# Altium footprint library iAi_TemplateProject_4L.PcbLib: 3 footprints
Each footprint in its own frame and in the unit in brackets; x right, y up, seen from the top. Pads: shape width x height; smd on the part's side, far side on the other; paste and mask are expansions set on the pad; w line width, h text height; cw(c..) or ccw(c..) is an arc to the next point about the centre after c.
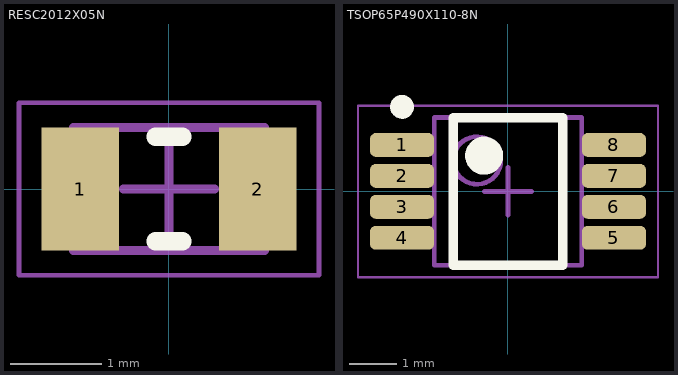
[diagram p0: the footprints below, top view; thin cyan lines are the x and y axes]

## _Template [mm] "Template component"
Top Layer:
  text "To name the footprint of the connector, used the name of the model of the connector" at -1.75,-1.75 h0.3
  text "To name the footprint of the IC, used the suggested name by Altium because it follows the IPC rules!!" at -1.75,-1.5 h0.3
  text "Don't forget to specify Height and Type" at -1.75,-1.25 h0.3
  text "See example RESC2012X05N" at -1.75,-1 h0.3
  text "M1 to M10 for PCB informations" at -1.75,1 h0.3
  text "To name the footprint of discret component, used the suggested name by Altium because it follows the IPC rules!!" at -1.75,-2 h0.3
Top Assembly:
  text "M11 Top Assembly" at -1.75,0.75 h0.3
Bottom Assembly (Mech12):
  text "M12 Bottom Assembly" at -1.75,0.5 h0.3
Top 3D Body:
  text "M13 Top 3D Body" at -1.75,0.25 h0.3
Bottom 3D Body:
  text "M14 Bottom 3D Body" at -1.75,0 h0.3
Top Courtyard (Mech15):
  text "M15 Top Courtyard" at -1.75,-0.25 h0.3
Bottom Courtyard (Mech16):
  text "M16 Bottom Courtyard" at -1.75,-0.5 h0.3

## RESC2012X05N [mm] "Chip Resistor, 2-Leads, Body 2.00x1.25mm, IPC Medium Density"
height 0.5
pads (2):
  rect 0.85x1.35 smd: 1(-0.975,0) 2(0.975,0)
Top Overlay:
  lines w0.2: -0.15,-0.575 0.15,-0.575 ; -0.15,0.575 0.15,0.575
Top Assembly:
  lines w0.1: -1.05,-0.675 -1.05,0.675 1.05,0.675 1.05,-0.675 -1.05,-0.675
  text "'.Designator'" at -0.75,-0.25 h1
Top Courtyard (Mech15):
  lines w0.05: -1.65,-0.95 -1.65,0.95 1.65,0.95 1.65,-0.95 -1.65,-0.95
  lines w0.1: -0.5,0 0.5,0 ; 0,-0.5 0,0.5
3D body "RESC2012X05N.step": height 0.5, standoff 0, extent -1.05,-0.675 1.05,0.675

## TSOP65P490X110-8N [mm] "TSOP, 8-Leads, Body 3.00x3.00mm, Pitch 0.65mm, IPC Medium Density"
height 1.1
pads (8):
  rrect50% 1.35x0.5 smd: 1(-2.225,0.975) 2(-2.225,0.325) 3(-2.225,-0.325) 4(-2.225,-0.975) 5(2.225,-0.975) 6(2.225,-0.325) 7(2.225,0.325) 8(2.225,0.975)
Top Overlay:
  circle w0.25: c-2.225,1.775 r0.125
  circle w0.4: c-0.5,0.75 r0.2
  lines w0.2: -1.15,-1.55 -1.15,1.55 1.15,1.55 1.15,-1.55 -1.15,-1.55
Top Assembly:
  circle w0.1: c-0.65,0.65 r0.5
  lines w0.1: -1.55,-1.55 -1.55,1.55 1.55,1.55 1.55,-1.55 -1.55,-1.55
  text "'.Designator'" at -1,-0.25 h1
Top Courtyard (Mech15):
  lines w0.05: -3.15,-1.8 -3.15,1.8 3.15,1.8 3.15,-1.8 -3.15,-1.8
  lines w0.1: -0.5,0 0.5,0 ; 0,-0.5 0,0.5
3D body "TSOP65P490X110-8N.step": height 1.1, standoff 0, extent -2.45,-1.55 2.45,1.55